# Altium schematic symbol library TVS_1_2dir.SchLib: 1 symbol
Pins are listed as number, name and electrical type; pins without a type are passive.

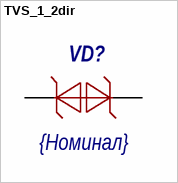
[diagram p0: symbol TVS_1_2dir]

## TVS_1_2dir
designator VD?  value {Номинал}
pins: 1, 2